# Altium footprint library PJ-002A.PcbLib: 1 footprints
Each footprint in its own frame and in the unit in brackets; x right, y up, seen from the top. Pads: shape width x height; smd on the part's side, far side on the other; paste and mask are expansions set on the pad; w line width, h text height; cw(c..) or ccw(c..) is an arc to the next point about the centre after c.
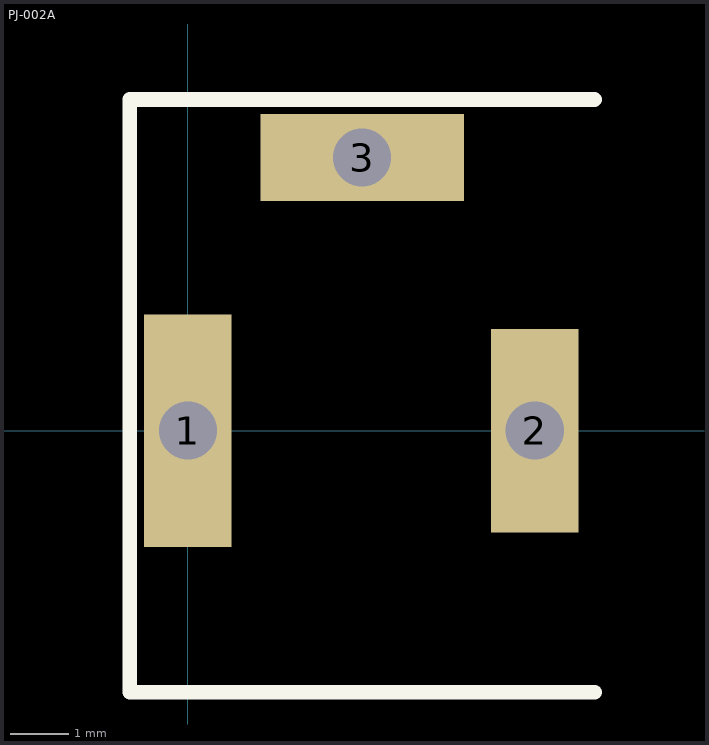
[diagram p0: the footprint, top view; thin cyan lines are the x and y axes]

## PJ-002A [mm]
height 11
pads (3):
  rect 1.5x4 hole 1 square: 1(0,0)
  rect 1.5x3.5 hole 1 square: 2(5.969,0)
  rect 3.5x1.5 hole 1 square: 3(3,4.7)
Top Overlay:
  lines w0.254: 7,-4.5 -1,-4.5 -1,5.7 7,5.7